# Altium footprint library Components - 26.09.24 - 08.39.PcbLib: 1 footprints
Each footprint in its own frame and in the unit in brackets; x right, y up, seen from the top. Pads: shape width x height; smd on the part's side, far side on the other; paste and mask are expansions set on the pad; w line width, h text height; cw(c..) or ccw(c..) is an arc to the next point about the centre after c.
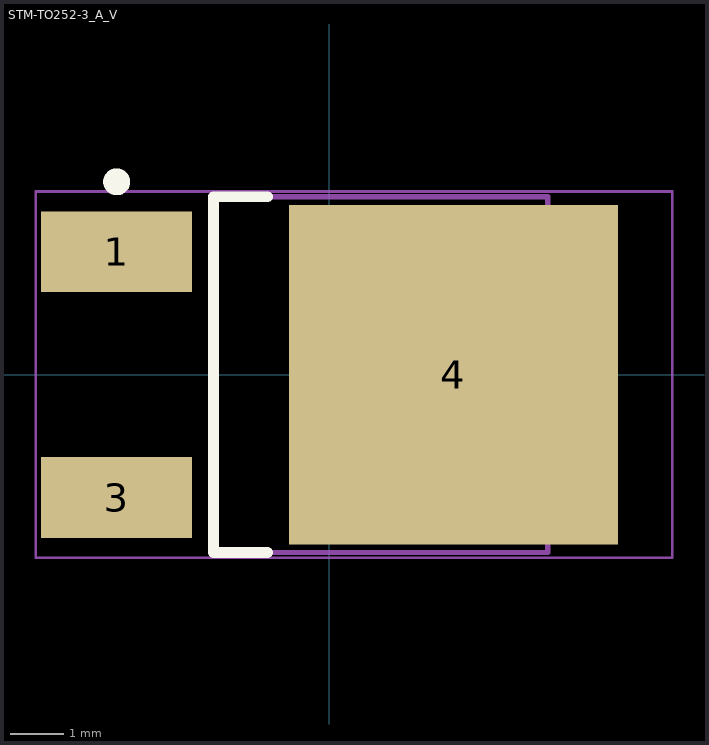
[diagram p0: the footprint, top view; thin cyan lines are the x and y axes]

## STM-TO252-3_A_V [mm] "D-PAK, 3-Leads, Body 6.20x6.60mm, Pitch 2.28mm"
height 2.4
pads (3):
  rect 2.8x1.5 smd: 1(-3.95,2.28) 3(-3.95,-2.28)
  rect 6.1x6.3 smd: 4(2.3,0)
Top Overlay:
  circle w0.25: c-3.95,3.58 r0.125
  lines w0.2: -1.15,-3.3 -2.15,-3.3 -2.15,3.3 -1.15,3.3
Mechanical 13:
  lines w0.1: -2.15,-3.3 4.05,-3.3 4.05,3.3 -2.15,3.3 -2.15,-3.3
Mechanical 15:
  lines w0.05: -5.45,-3.4 6.36,-3.4 6.36,3.4 -5.45,3.4 -5.45,-3.4
  lines w0.1: -0.5,0 0.5,0 ; 0,-0.5 0,0.5
3D body "DPAK228P972X240-3L.step": height 2.43, standoff 0, extent -3.375,-3.3 6.35,3.3